# Altium schematic symbol library Schlib2.SchLib: 10 symbols
Pins are listed as number, name and electrical type; pins without a type are passive.

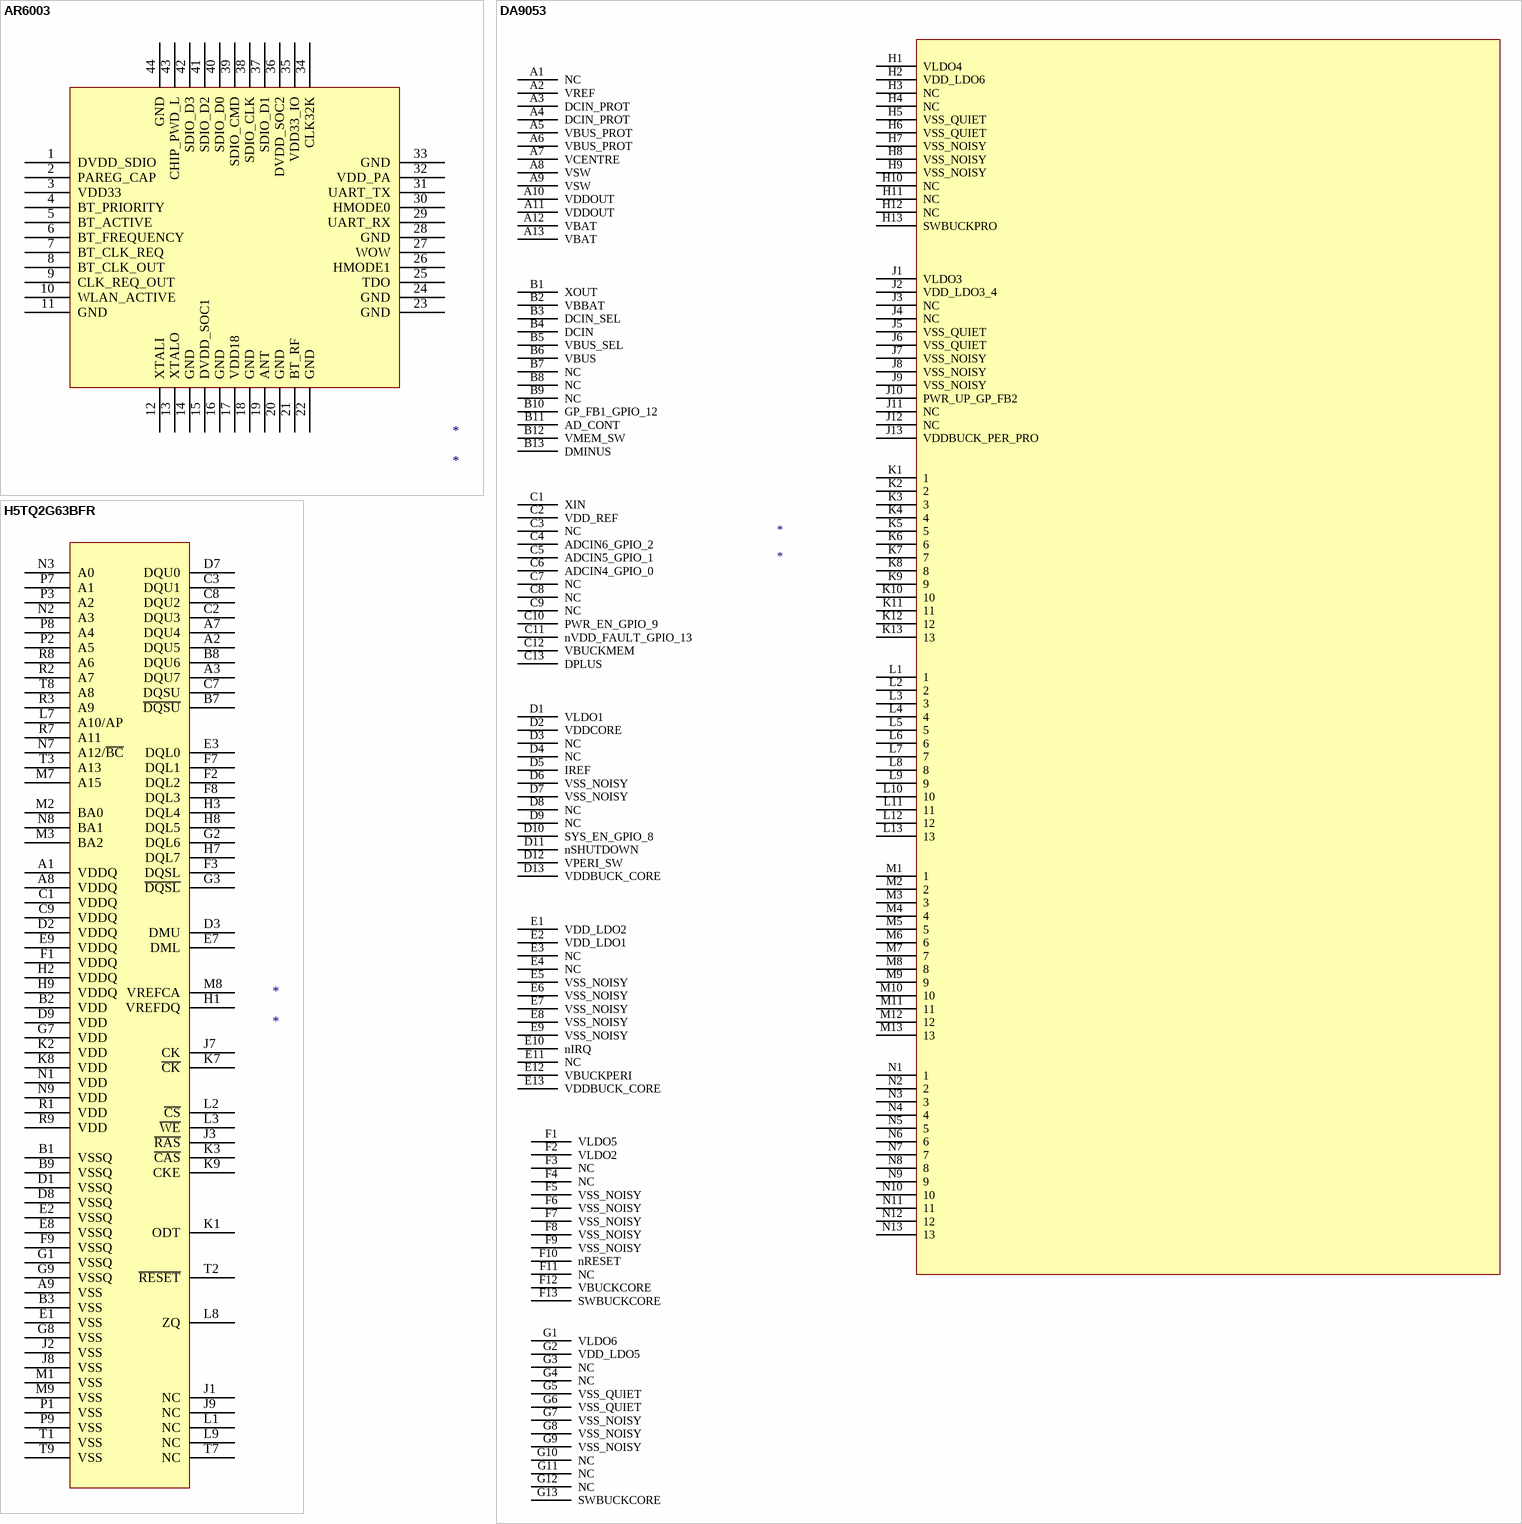
[diagram p0: symbols AR6003 to H5TQ2G63BFR]

## AR6003
designator *
pins: 1 DVDD_SDIO, 2 PAREG_CAP, 3 VDD33, 4 BT_PRIORITY, 5 BT_ACTIVE, 6 BT_FREQUENCY, 7 BT_CLK_REQ, 8 BT_CLK_OUT, 9 CLK_REQ_OUT, 10 WLAN_ACTIVE, 11 GND, 12 XTALI, 13 XTALO, 14 GND, 15 DVDD_SOC1, 16 GND, 17 VDD18, 18 GND, 19 ANT, 20 GND, 21 BT_RF, 22 GND, 23 GND, 24 GND, 25 TDO, 26 HMODE1, 27 WOW, 28 GND, 29 UART_RX, 30 HMODE0, 31 UART_TX, 32 VDD_PA, 33 GND, 34 CLK32K, 35 VDD33_IO, 36 DVDD_SOC2, 37 SDIO_D1, 38 SDIO_CLK, 39 SDIO_CMD, 40 SDIO_D0, 41 SDIO_D2, 42 SDIO_D3, 43 CHIP_PWD_L, 44 GND

## DA9053
designator *
pins: A1 NC, A2 VREF, A3 DCIN_PROT, A4 DCIN_PROT, A5 VBUS_PROT, A6 VBUS_PROT, A7 VCENTRE, A8 VSW, A9 VSW, A10 VDDOUT, A11 VDDOUT, A12 VBAT, A13 VBAT, B1 XOUT, B2 VBBAT, B3 DCIN_SEL, B4 DCIN, B5 VBUS_SEL, B6 VBUS, B7 NC, B8 NC, B9 NC, B10 GP_FB1_GPIO_12, B11 AD_CONT, B12 VMEM_SW, B13 DMINUS, C1 XIN, C2 VDD_REF, C3 NC, C4 ADCIN6_GPIO_2, C5 ADCIN5_GPIO_1, C6 ADCIN4_GPIO_0, C7 NC, C8 NC, C9 NC, C10 PWR_EN_GPIO_9, C11 nVDD_FAULT_GPIO_13, C12 VBUCKMEM, C13 DPLUS, D1 VLDO1, D2 VDDCORE, D3 NC, D4 NC, D5 IREF, D6 VSS_NOISY, D7 VSS_NOISY, D8 NC, D9 NC, D10 SYS_EN_GPIO_8, D11 nSHUTDOWN, D12 VPERI_SW, D13 VDDBUCK_CORE, E1 VDD_LDO2, E2 VDD_LDO1, E3 NC, E4 NC, E5 VSS_NOISY, E6 VSS_NOISY, E7 VSS_NOISY, E8 VSS_NOISY, E9 VSS_NOISY, E10 nIRQ, E11 NC, E12 VBUCKPERI, E13 VDDBUCK_CORE, F1 VLDO5, F2 VLDO2, F3 NC, F4 NC, F5 VSS_NOISY, F6 VSS_NOISY, F7 VSS_NOISY, F8 VSS_NOISY, F9 VSS_NOISY, F10 nRESET, F11 NC, F12 VBUCKCORE, F13 SWBUCKCORE, G1 VLDO6, G2 VDD_LDO5, G3 NC, G4 NC, G5 VSS_QUIET, G6 VSS_QUIET, G7 VSS_NOISY, G8 VSS_NOISY, G9 VSS_NOISY, G10 NC, G11 NC, G12 NC, G13 SWBUCKCORE, H1 VLDO4, H2 VDD_LDO6, H3 NC, H4 NC, H5 VSS_QUIET, H6 VSS_QUIET, H7 VSS_NOISY, H8 VSS_NOISY, H9 VSS_NOISY, H10 NC, H11 NC, H12 NC, H13 SWBUCKPRO, J1 VLDO3, J2 VDD_LDO3_4, J3 NC, J4 NC, J5 VSS_QUIET, J6 VSS_QUIET, J7 VSS_NOISY, J8 VSS_NOISY, J9 VSS_NOISY, J10 PWR_UP_GP_FB2, J11 NC, J12 NC, J13 VDDBUCK_PER_PRO, K1 1, K2 2, K3 3, K4 4, K5 5, K6 6, K7 7, K8 8, K9 9, K10 10, K11 11, K12 12, K13 13, L1 1, L2 2, L3 3, L4 4, L5 5, L6 6, L7 7, L8 8, L9 9, L10 10, L11 11, L12 12, L13 13, M1 1, M2 2, M3 3, M4 4, M5 5, M6 6, M7 7, M8 8, M9 9, M10 10, M11 11, M12 12, M13 13, N1 1, N2 2, N3 3, N4 4, N5 5, N6 6, N7 7, N8 8, N9 9, N10 10, N11 11, N12 12, N13 13

## H5TQ2G63BFR
designator *
pins: A1 VDDQ, A2 DQU5, A3 DQU7, A7 DQU4, A8 VDDQ, A9 VSS, B1 VSSQ, B2 VDD, B3 VSS, B7 ~{DQSU}, B8 DQU6, B9 VSSQ, C1 VDDQ, C2 DQU3, C3 DQU1, C7 DQSU, C8 DQU2, C9 VDDQ, D1 VSSQ, D2 VDDQ, D3 DMU, D7 DQU0, D8 VSSQ, D9 VDD, E1 VSS, E2 VSSQ, E3 DQL0, E7 DML, E8 VSSQ, E9 VDDQ, F1 VDDQ, F2 DQL2, F3 DQSL, F7 DQL1, F8 DQL3, F9 VSSQ, G1 VSSQ, G2 DQL6, G3 ~{DQSL}, G7 VDD, G8 VSS, G9 VSSQ, H1 VREFDQ, H2 VDDQ, H3 DQL4, H7 DQL7, H8 DQL5, H9 VDDQ, J1 NC, J2 VSS, J3 ~{RAS}, J7 CK, J8 VSS, J9 NC, K1 ODT, K2 VDD, K3 ~{CAS}, K7 ~{CK}, K8 VDD, K9 CKE, L1 NC, L2 ~{CS}, L3 ~{WE}, L7 A10/AP, L8 ZQ, L9 NC, M1 VSS, M2 BA0, M3 BA2, M7 A15, M8 VREFCA, M9 VSS, N1 VDD, N2 A3, N3 A0, N7 A12/~{BC}, N8 BA1, N9 VDD, P1 VSS, P2 A5, P3 A2, P7 A1, P8 A4, P9 VSS, R1 VDD, R2 A7, R3 A9, R7 A11, R8 A6, R9 VDD, T1 VSS, T2 ~{RESET}, T3 A13, T7 NC, T8 A8, T9 VSS

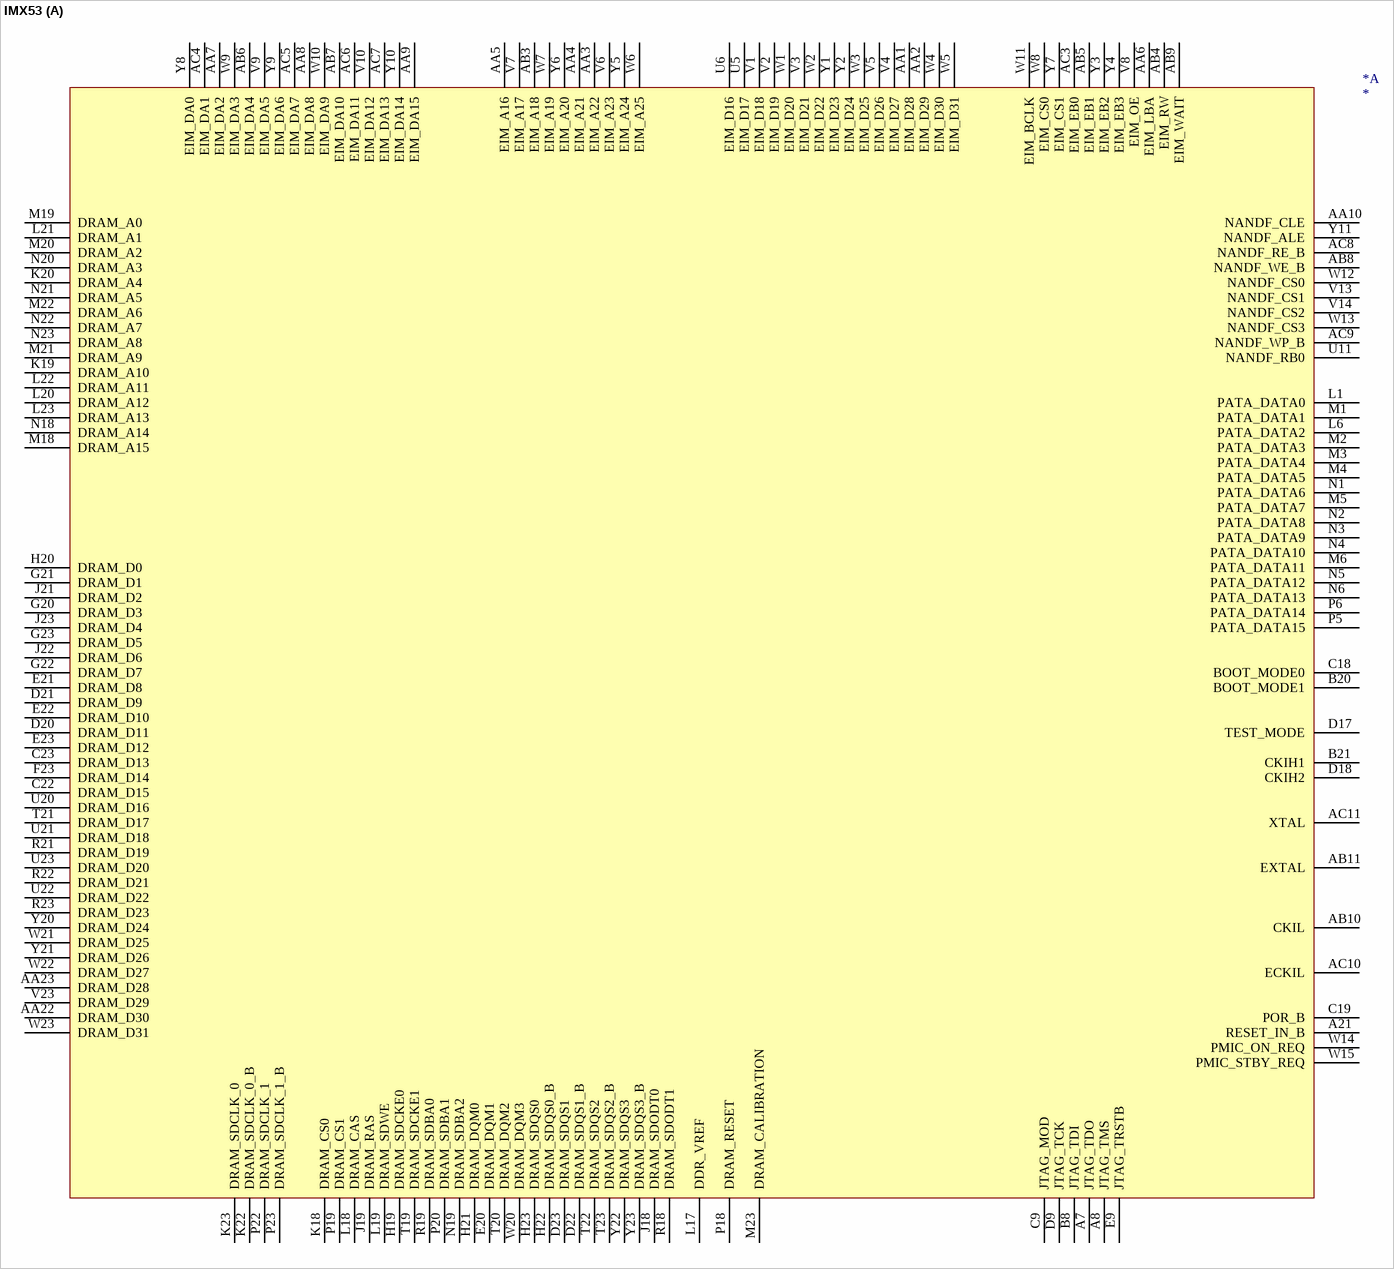
[diagram p1: symbol IMX53]

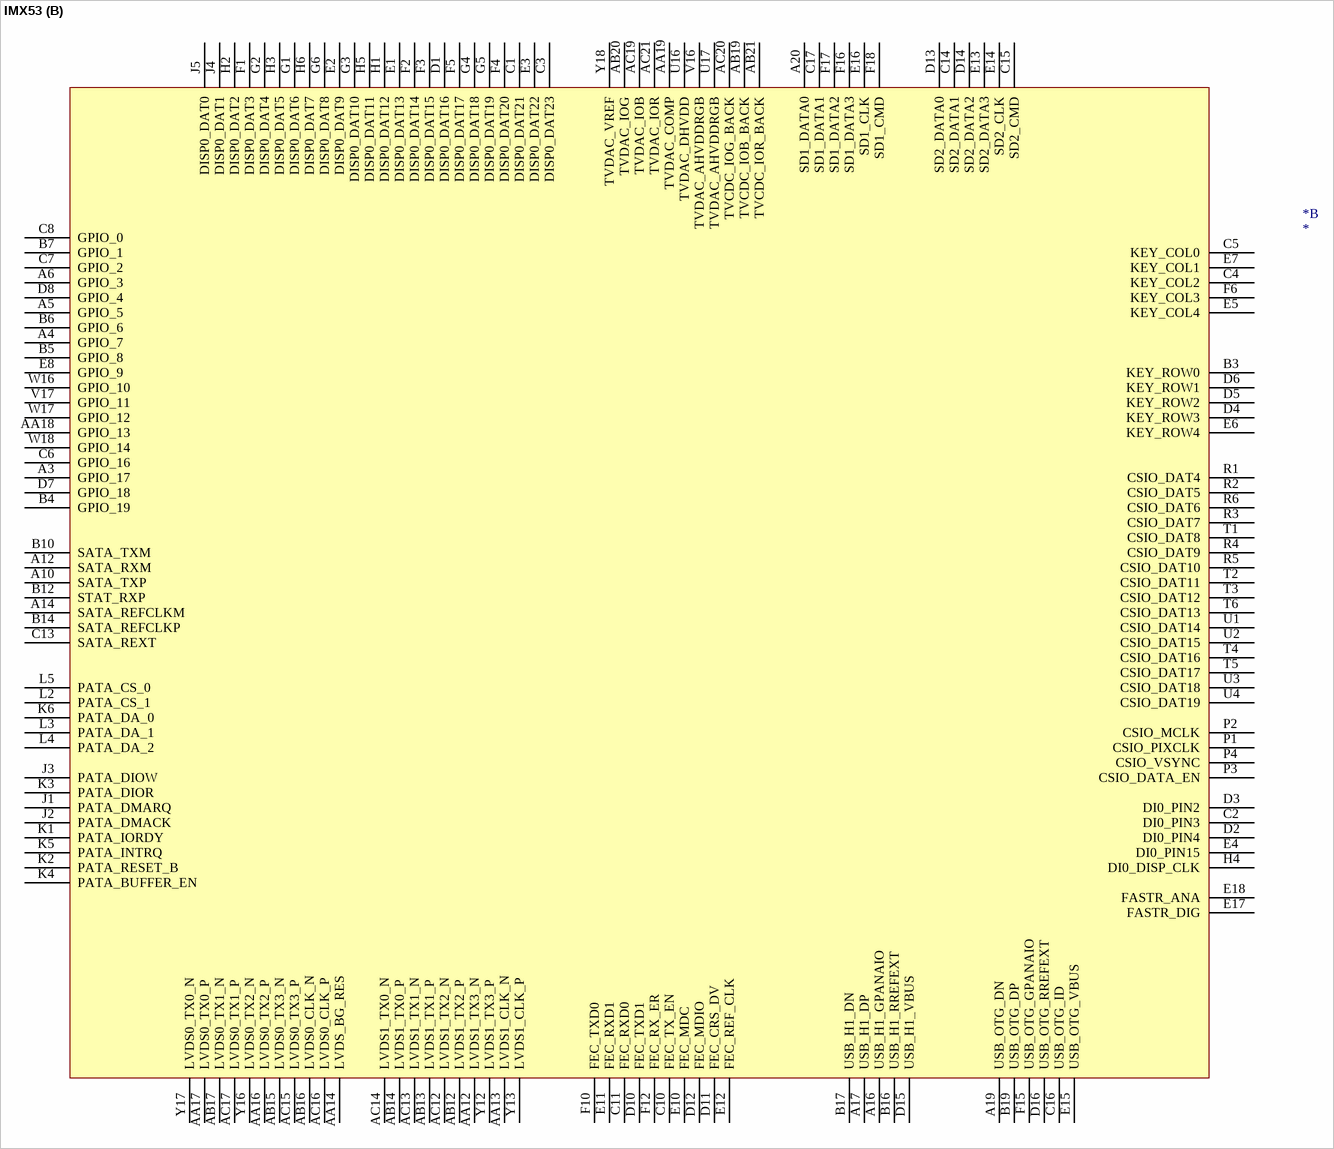
[diagram p2: symbol IMX53]

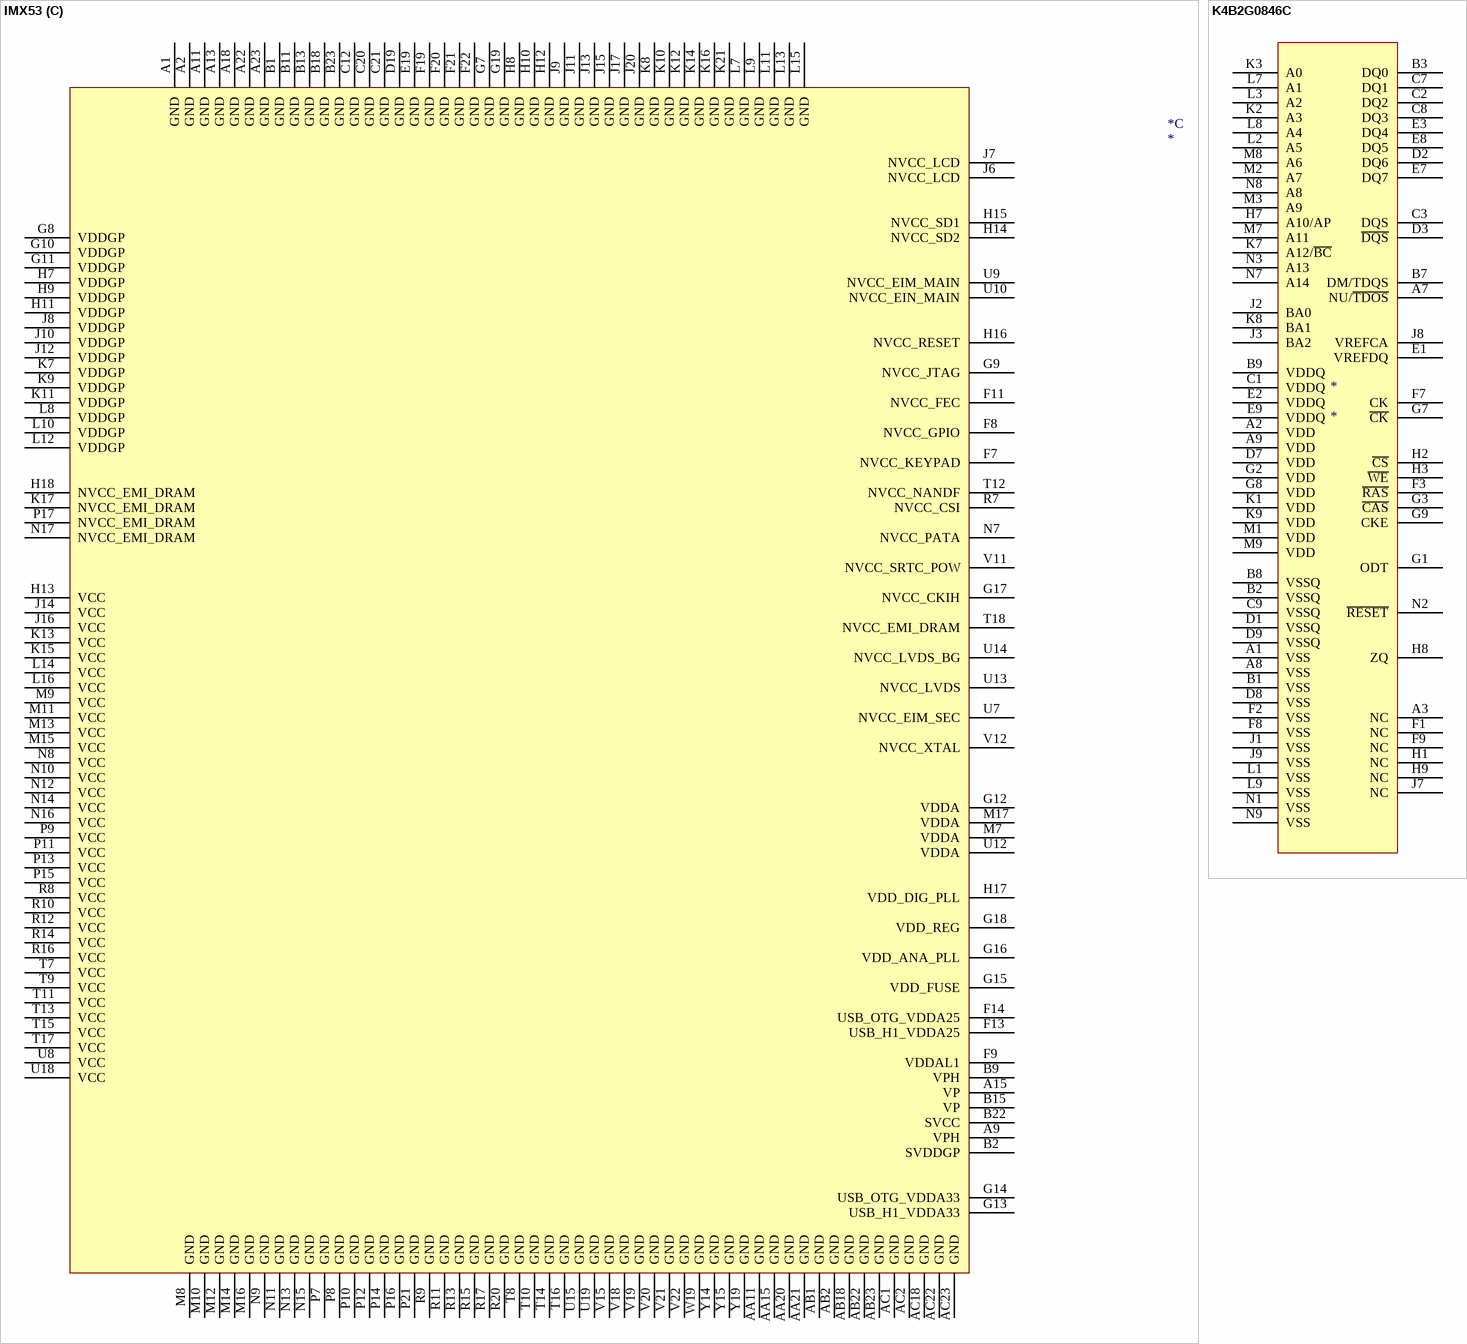
[diagram p3: symbols IMX53 to K4B2G0846C]

## IMX53
designator *
part A pins: A7 JTAG_TDO, A8 JTAG_TMS, A21 RESET_IN_B, AA1 EIM_D28, AA2 EIM_D29, AA3 EIM_A22, AA4 EIM_A21, AA5 EIM_A16, AA6 EIM_LBA, AA7 EIM_DA2, AA8 EIM_DA8, AA9 EIM_DA15, AA10 NANDF_CLE, AA22 DRAM_D30, AA23 DRAM_D28, AB3 EIM_A18, AB4 EIM_RW, AB5 EIM_EB1, AB6 EIM_DA4, AB7 EIM_DA10, AB8 NANDF_WE_B, AB9 EIM_WAIT, AB10 CKIL, AB11 EXTAL, AC3 EIM_EB0, AC4 EIM_DA1, AC5 EIM_DA7, AC6 EIM_DA11, AC7 EIM_DA13, AC8 NANDF_RE_B, AC9 NANDF_WP_B, AC10 ECKIL, AC11 XTAL, B8 JTAG_TDI, B20 BOOT_MODE1, B21 CKIH1, C9 JTAG_MOD, C18 BOOT_MODE0, C19 POR_B, C22 DRAM_D15, C23 DRAM_D13, D9 JTAG_TCK, D17 TEST_MODE, D18 CKIH2, D20 DRAM_D11, D21 DRAM_D9, D22 DRAM_SDQS1_B, D23 DRAM_SDQS1, E9 JTAG_TRSTB, E20 DRAM_DQM1, E21 DRAM_D8, E22 DRAM_D10, E23 DRAM_D12, F23 DRAM_D14, G20 DRAM_D3, G21 DRAM_D1, G22 DRAM_D7, G23 DRAM_D5, H19 DRAM_SDCKE0, H20 DRAM_D0, H21 DRAM_DQM0, H22 DRAM_SDQS0_B, H23 DRAM_SDQS0, J18 DRAM_SDODT0, J19 DRAM_RAS, J21 DRAM_D2, J22 DRAM_D6, J23 DRAM_D4, K18 DRAM_CS0, K19 DRAM_A10, K20 DRAM_A4, K22 DRAM_SDCLK_0_B, K23 DRAM_SDCLK_0, L1 PATA_DATA0, L6 PATA_DATA2, L17 DDR_VREF, L18 DRAM_CAS, L19 DRAM_SDWE, L20 DRAM_A12, L21 DRAM_A1, L22 DRAM_A11, L23 DRAM_A13, M1 PATA_DATA1, M2 PATA_DATA3, M3 PATA_DATA4, M4 PATA_DATA5, M5 PATA_DATA7, M6 PATA_DATA11, M18 DRAM_A15, M19 DRAM_A0, M20 DRAM_A2, M21 DRAM_A9, M22 DRAM_A6, M23 DRAM_CALIBRATION, N1 PATA_DATA6, N2 PATA_DATA8, N3 PATA_DATA9, N4 PATA_DATA10, N5 PATA_DATA12, N6 PATA_DATA13, N18 DRAM_A14, N19 DRAM_SDBA2, N20 DRAM_A3, N21 DRAM_A5, N22 DRAM_A7, N23 DRAM_A8, P5 PATA_DATA15, P6 PATA_DATA14, P18 DRAM_RESET, P19 DRAM_CS1, P20 DRAM_SDBA1, P22 DRAM_SDCLK_1, P23 DRAM_SDCLK_1_B, R18 DRAM_SDODT1, R19 DRAM_SDBA0, R21 DRAM_D19, R22 DRAM_D21, R23 DRAM_D23, T19 DRAM_SDCKE1, T20 DRAM_DQM2, T21 DRAM_D17, T22 DRAM_SDQS2, T23 DRAM_SDQS2_B, U5 EIM_D17, U6 EIM_D16, U11 NANDF_RB0, U20 DRAM_D16, U21 DRAM_D18, U22 DRAM_D22, U23 DRAM_D20, V1 EIM_D18, V2 EIM_D19, V3 EIM_D21, V4 EIM_D27, V5 EIM_D26, V6 EIM_A23, V7 EIM_A17, V8 EIM_OE, V9 EIM_DA5, V10 EIM_DA12, V13 NANDF_CS1, V14 NANDF_CS2, V23 DRAM_D29, W1 EIM_D20, W2 EIM_D22, W3 EIM_D25, W4 EIM_D30, W5 EIM_D31, W6 EIM_A25, W7 EIM_A19, W8 EIM_CS0, W9 EIM_DA3, W10 EIM_DA9, W11 EIM_BCLK, W12 NANDF_CS0, W13 NANDF_CS3, W14 PMIC_ON_REQ, W15 PMIC_STBY_REQ, W20 DRAM_DQM3, W21 DRAM_D25, W22 DRAM_D27, W23 DRAM_D31, Y1 EIM_D23, Y2 EIM_D24, Y3 EIM_EB2, Y4 EIM_EB3, Y5 EIM_A24, Y6 EIM_A20, Y7 EIM_CS1, Y8 EIM_DA0, Y9 EIM_DA6, Y10 EIM_DA14, Y11 NANDF_ALE, Y20 DRAM_D24, Y21 DRAM_D26, Y22 DRAM_SDQS3, Y23 DRAM_SDQS3_B
part B pins: A3 GPIO_17, A4 GPIO_7, A5 GPIO_5, A6 GPIO_3, A10 SATA_TXP, A12 SATA_RXM, A14 SATA_REFCLKM, A16 USB_H1_GPANAIO, A17 USB_H1_DP, A19 USB_OTG_DN, A20 SD1_DATA0, AA12 LVDS1_TX3_N, AA13 LVDS1_CLK_N, AA14 LVDS_BG_RES, AA16 LVDS0_TX2_P, AA17 LVDS0_TX0_P, AA18 GPIO_13, AA19 TVDAC_COMP, AB12 LVDS1_TX2_P, AB13 LVDS1_TX1_P, AB14 LVDS1_TX0_P, AB15 LVDS0_TX3_N, AB16 LVDS0_CLK_N, AB17 LVDS0_TX1_N, AB19 TVCDC_IOB_BACK, AB20 TVDAC_IOG, AB21 TVCDC_IOR_BACK, AC12 LVDS1_TX2_N, AC13 LVDS1_TX1_N, AC14 LVDS1_TX0_N, AC15 LVDS0_TX3_P, AC16 LVDS0_CLK_P, AC17 LVDS0_TX1_P, AC19 TVDAC_IOB, AC20 TVCDC_IOG_BACK, AC21 TVDAC_IOR, B3 KEY_ROW0, B4 GPIO_19, B5 GPIO_8, B6 GPIO_6, B7 GPIO_1, B10 SATA_TXM, B12 STAT_RXP, B14 SATA_REFCLKP, B16 USB_H1_RREFEXT, B17 USB_H1_DN, B19 USB_OTG_DP, C1 DISP0_DAT21, C2 DI0_PIN3, C3 DISP0_DAT23, C4 KEY_COL2, C5 KEY_COL0, C6 GPIO_16, C7 GPIO_2, C8 GPIO_0, C10 FEC_TX_EN, C11 FEC_RXD0, C13 SATA_REXT, C14 SD2_DATA1, C15 SD2_CMD, C16 USB_OTG_ID, C17 SD1_DATA1, D1 DISP0_DAT16, D2 DI0_PIN4, D3 DI0_PIN2, D4 KEY_ROW3, D5 KEY_ROW2, D6 KEY_ROW1, D7 GPIO_18, D8 GPIO_4, D10 FEC_TXD1, D11 FEC_CRS_DV, D12 FEC_MDIO, D13 SD2_DATA0, D14 SD2_DATA2, D15 USB_H1_VBUS, D16 USB_OTG_RREFEXT, E1 DISP0_DAT13, E2 DISP0_DAT9, E3 DISP0_DAT22, E4 DI0_PIN15, E5 KEY_COL4, E6 KEY_ROW4, E7 KEY_COL1, E8 GPIO_9, E10 FEC_MDC, E11 FEC_RXD1, E12 FEC_REF_CLK, E13 SD2_DATA3, E14 SD2_CLK, E15 USB_OTG_VBUS, E16 SD1_CLK, E17 FASTR_DIG, E18 FASTR_ANA, F1 DISP0_DAT3, F2 DISP0_DAT14, F3 DISP0_DAT15, F4 DISP0_DAT20, F5 DISP0_DAT17, F6 KEY_COL3, F10 FEC_TXD0, F12 FEC_RX_ER, F15 USB_OTG_GPANAIO, F16 SD1_DATA3, F17 SD1_DATA2, F18 SD1_CMD, G1 DISP0_DAT6, G2 DISP0_DAT4, G3 DISP0_DAT10, G4 DISP0_DAT18, G5 DISP0_DAT19, G6 DISP0_DAT8, H1 DISP0_DAT12, H2 DISP0_DAT2, H3 DISP0_DAT5, H4 DI0_DISP_CLK, H5 DISP0_DAT11, H6 DISP0_DAT7, J1 PATA_DMARQ, J2 PATA_DMACK, J3 PATA_DIOW, J4 DISP0_DAT1, J5 DISP0_DAT0, K1 PATA_IORDY, K2 PATA_RESET_B, K3 PATA_DIOR, K4 PATA_BUFFER_EN, K5 PATA_INTRQ, K6 PATA_DA_0, L2 PATA_CS_1, L3 PATA_DA_1, L4 PATA_DA_2, L5 PATA_CS_0, P1 CSIO_PIXCLK, P2 CSIO_MCLK, P3 CSIO_DATA_EN, P4 CSIO_VSYNC, R1 CSIO_DAT4, R2 CSIO_DAT5, R3 CSIO_DAT7, R4 CSIO_DAT9, R5 CSIO_DAT10, R6 CSIO_DAT6, T1 CSIO_DAT8, T2 CSIO_DAT11, T3 CSIO_DAT12, T4 CSIO_DAT16, T5 CSIO_DAT17, T6 CSIO_DAT13, U1 CSIO_DAT14, U2 CSIO_DAT15, U3 CSIO_DAT18, U4 CSIO_DAT19, U16 TVDAC_DHVDD, U17 TVDAC_AHVDDRGB, V16 TVDAC_AHVDDRGB, V17 GPIO_11, W16 GPIO_10, W17 GPIO_12, W18 GPIO_14, Y12 LVDS1_TX3_P, Y13 LVDS1_CLK_P, Y16 LVDS0_TX2_N, Y17 LVDS0_TX0_N, Y18 TVDAC_VREF
part C pins: A1 GND, A2 GND, A9 VPH, A11 GND, A13 GND, A15 VP, A18 GND, A22 GND, A23 GND, AA11 GND, AA15 GND, AA20 GND, AA21 GND, AB1 GND, AB2 GND, AB18 GND, AB22 GND, AB23 GND, AC1 GND, AC2 GND, AC18 GND, AC22 GND, AC23 GND, B1 GND, B2 SVDDGP, B9 VPH, B11 GND, B13 GND, B15 VP, B18 GND, B22 SVCC, B23 GND, C12 GND, C20 GND, C21 GND, D19 GND, E19 GND, F7 NVCC_KEYPAD, F8 NVCC_GPIO, F9 VDDAL1, F11 NVCC_FEC, F13 USB_H1_VDDA25, F14 USB_OTG_VDDA25, F19 GND, F20 GND, F21 GND, F22 GND, G7 GND, G8 VDDGP, G9 NVCC_JTAG, G10 VDDGP, G11 VDDGP, G12 VDDA, G13 USB_H1_VDDA33, G14 USB_OTG_VDDA33, G15 VDD_FUSE, G16 VDD_ANA_PLL, G17 NVCC_CKIH, G18 VDD_REG, G19 GND, H7 VDDGP, H8 GND, H9 VDDGP, H10 GND, H11 VDDGP, H12 GND, H13 VCC, H14 NVCC_SD2, H15 NVCC_SD1, H16 NVCC_RESET, H17 VDD_DIG_PLL, H18 NVCC_EMI_DRAM, J6 NVCC_LCD, J7 NVCC_LCD, J8 VDDGP, J9 GND, J10 VDDGP, J11 GND, J12 VDDGP, J13 GND, J14 VCC, J15 GND, J16 VCC, J17 GND, J20 GND, K7 VDDGP, K8 GND, K9 VDDGP, K10 GND, K11 VDDGP, K12 GND, K13 VCC, K14 GND, K15 VCC, K16 GND, K17 NVCC_EMI_DRAM, K21 GND, L7 GND, L8 VDDGP, L9 GND, L10 VDDGP, L11 GND, L12 VDDGP, L13 GND, L14 VCC, L15 GND, L16 VCC, M7 VDDA, M8 GND, M9 VCC, M10 GND, M11 VCC, M12 GND, M13 VCC, M14 GND, M15 VCC, M16 GND, M17 VDDA, N7 NVCC_PATA, N8 VCC, N9 GND, N10 VCC, N11 GND, N12 VCC, N13 GND, N14 VCC, N15 GND, N16 VCC, N17 NVCC_EMI_DRAM, P7 GND, P8 GND, P9 VCC, P10 GND, P11 VCC, P12 GND, P13 VCC, P14 GND, P15 VCC, P16 GND, P17 NVCC_EMI_DRAM, P21 GND, R7 NVCC_CSI, R8 VCC, R9 GND, R10 VCC, R11 GND, R12 VCC, R13 GND, R14 VCC, R15 GND, R16 VCC, R17 GND, R20 GND, T7 VCC, T8 GND, T9 VCC, T10 GND, T11 VCC, T12 NVCC_NANDF, T13 VCC, T14 GND, T15 VCC, T16 GND, T17 VCC, T18 NVCC_EMI_DRAM, U7 NVCC_EIM_SEC, U8 VCC, U9 NVCC_EIM_MAIN, U10 NVCC_EIN_MAIN, U12 VDDA, U13 NVCC_LVDS, U14 NVCC_LVDS_BG, U15 GND, U18 VCC, U19 GND, V11 NVCC_SRTC_POW, V12 NVCC_XTAL, V15 GND, V18 GND, V19 GND, V20 GND, V21 GND, V22 GND, W19 GND, Y14 GND, Y15 GND, Y19 GND

## K4B2G0846C
designator *
pins: A1 VSS, A2 VDD, A3 NC, A7 NU/~{TDOS}, A8 VSS, A9 VDD, B1 VSS, B2 VSSQ, B3 DQ0, B7 DM/TDQS, B8 VSSQ, B9 VDDQ, C1 VDDQ, C2 DQ2, C3 DQS, C7 DQ1, C8 DQ3, C9 VSSQ, D1 VSSQ, D2 DQ6, D3 ~{DQS}, D7 VDD, D8 VSS, D9 VSSQ, E1 VREFDQ, E2 VDDQ, E3 DQ4, E7 DQ7, E8 DQ5, E9 VDDQ, F1 NC, F2 VSS, F3 ~{RAS}, F7 CK, F8 VSS, F9 NC, G1 ODT, G2 VDD, G3 ~{CAS}, G7 ~{CK}, G8 VDD, G9 CKE, H1 NC, H2 ~{CS}, H3 ~{WE}, H7 A10/AP, H8 ZQ, H9 NC, J1 VSS, J2 BA0, J3 BA2, J7 NC, J8 VREFCA, J9 VSS, K1 VDD, K2 A3, K3 A0, K7 A12/~{BC}, K8 BA1, K9 VDD, L1 VSS, L2 A5, L3 A2, L7 A1, L8 A4, L9 VSS, M1 VDD, M2 A7, M3 A9, M7 A11, M8 A6, M9 VDD, N1 VSS, N2 ~{RESET}, N3 A13, N7 A14, N8 A8, N9 VSS

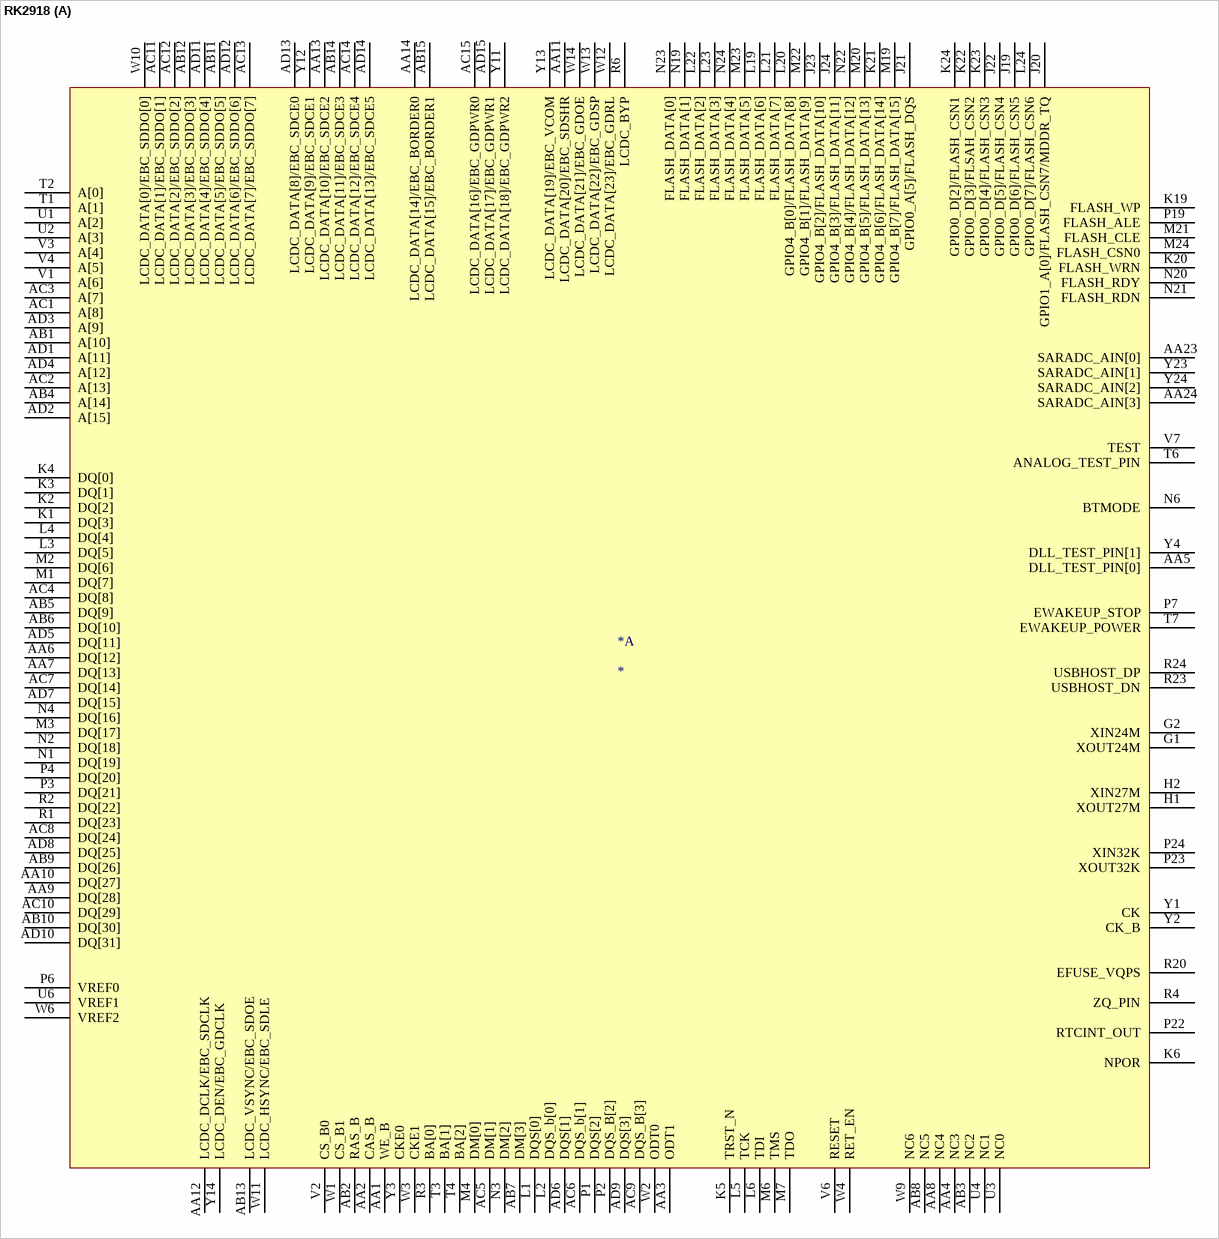
[diagram p4: symbol RK2918]

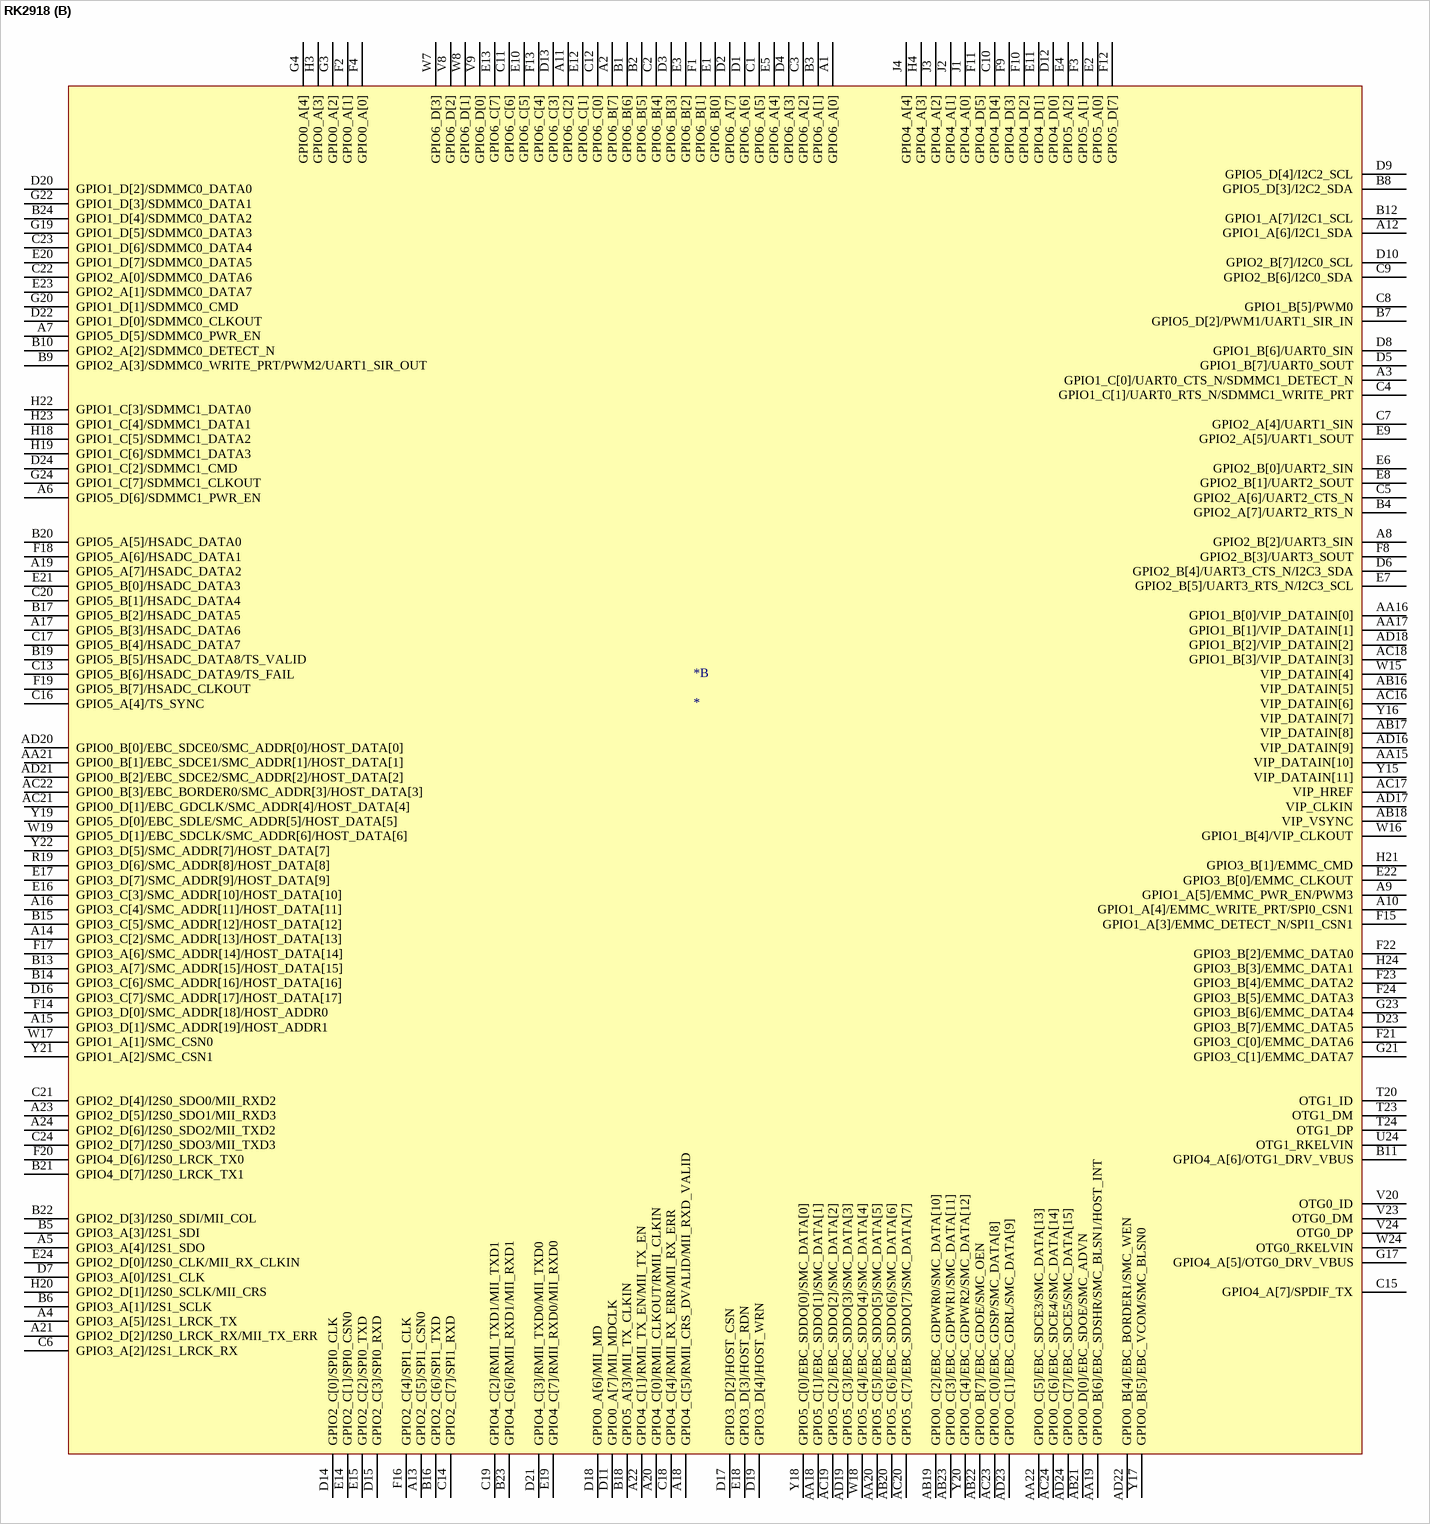
[diagram p5: symbol RK2918]

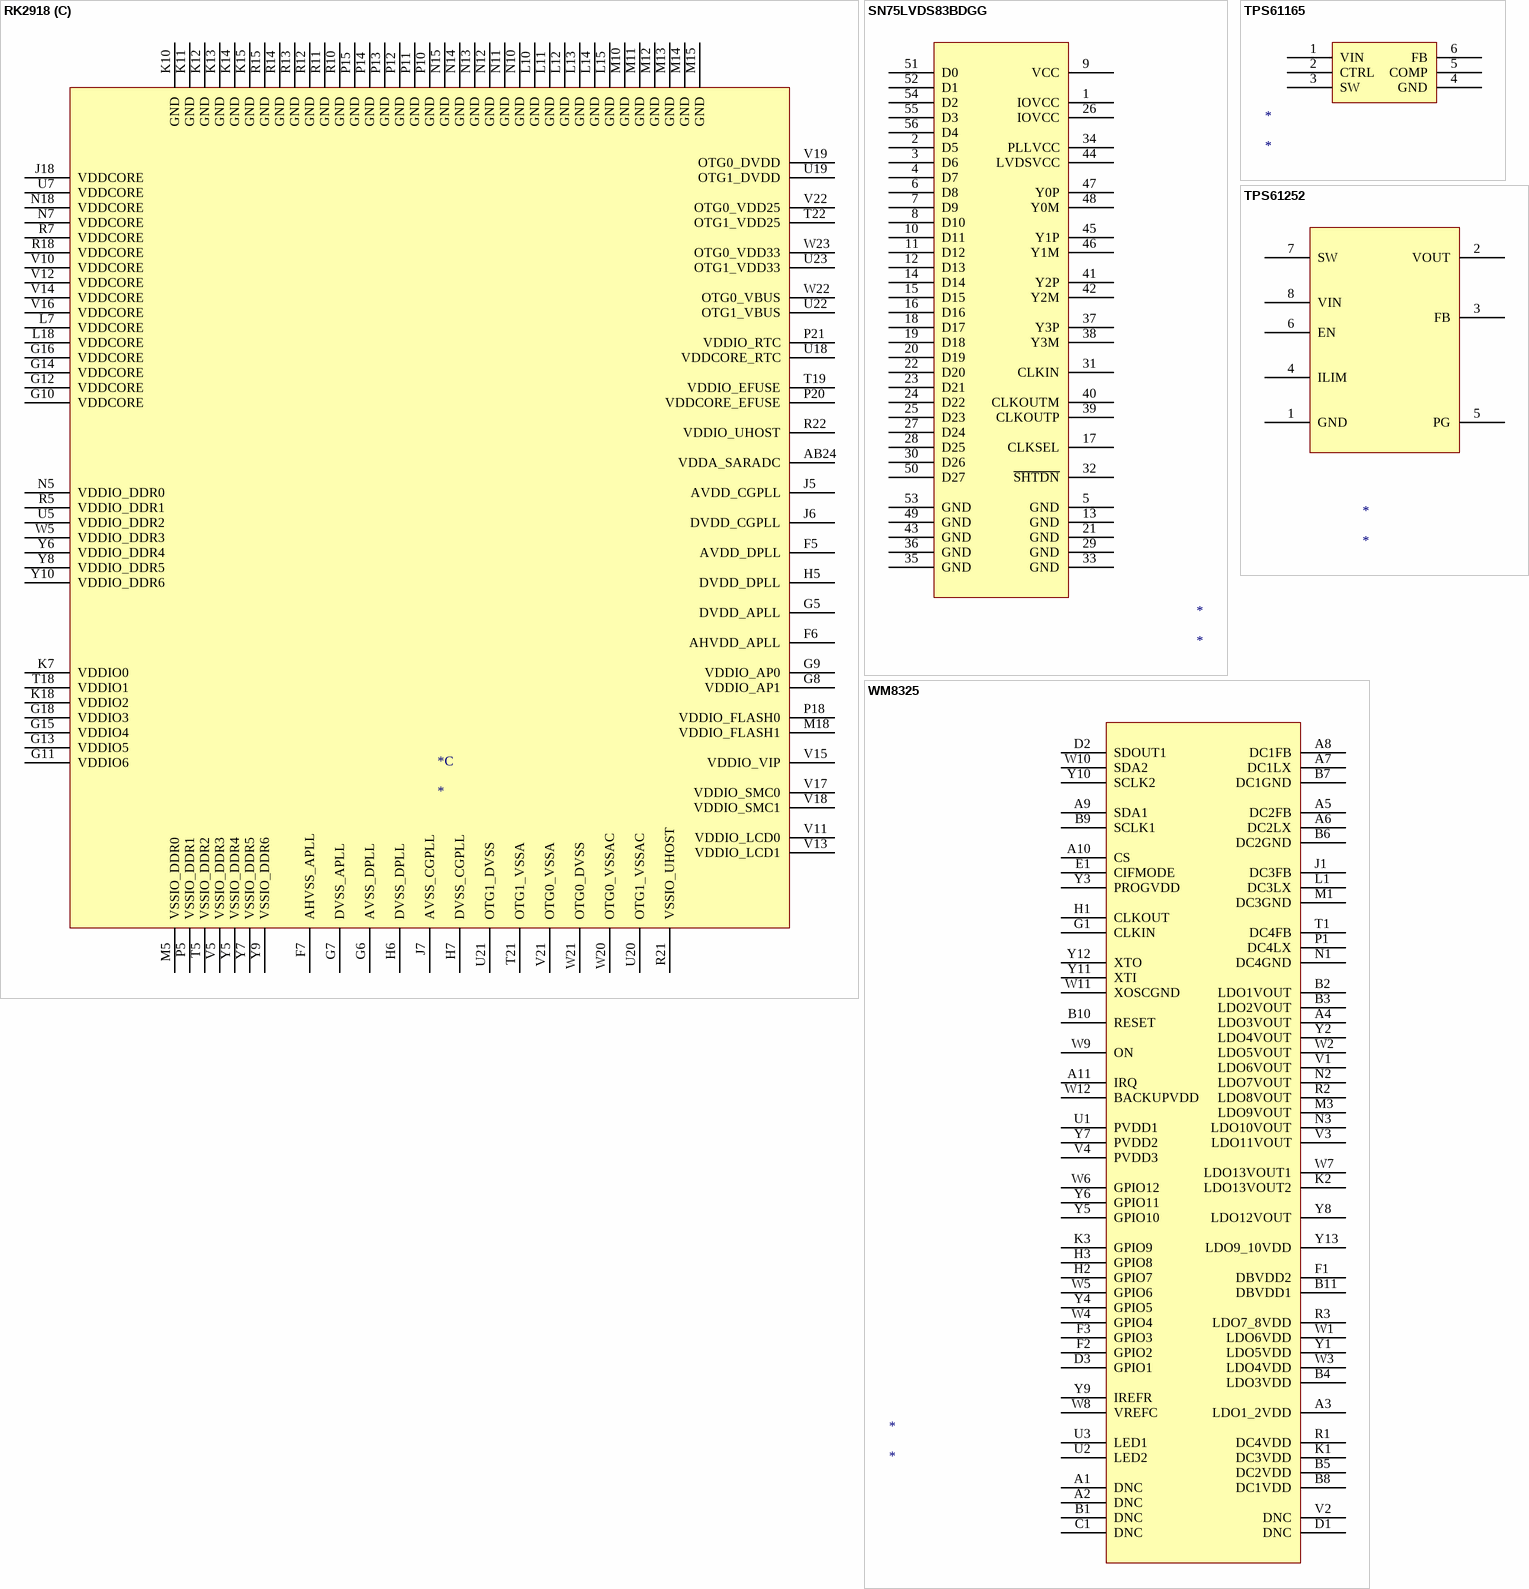
[diagram p6: symbols RK2918 to WM8325]

## RK2918
designator *
part A pins: AA1 WE_B, AA2 CAS_B, AA3 ODT1, AA4 NC3, AA5 DLL_TEST_PIN[0], AA6 DQ[12], AA7 DQ[13], AA8 NC4, AA9 DQ[28], AA10 DQ[27], AA11 LCDC_DATA[20]/EBC_SDSHR, AA12 LCDC_DCLK/EBC_SDCLK, AA13 LCDC_DATA[10]/EBC_SDCE2, AA14 LCDC_DATA[14]/EBC_BORDER0, AA23 SARADC_AIN[0], AA24 SARADC_AIN[3], AB1 A[10], AB2 RAS_B, AB3 NC2, AB4 A[14], AB5 DQ[9], AB6 DQ[10], AB7 DM[3], AB8 NC5, AB9 DQ[26], AB10 DQ[30], AB11 LCDC_DATA[5]/EBC_SDDO[5], AB12 LCDC_DATA[3]/EBC_SDDO[3], AB13 LCDC_VSYNC/EBC_SDOE, AB14 LCDC_DATA[11]/EBC_SDCE3, AB15 LCDC_DATA[15]/EBC_BORDER1, AC1 A[8], AC2 A[13], AC3 A[7], AC4 DQ[8], AC5 DM[1], AC6 DQS_b[1], AC7 DQ[14], AC8 DQ[24], AC9 DQS_B[3], AC10 DQ[29], AC11 LCDC_DATA[1]/EBC_SDDO[1], AC12 LCDC_DATA[2]/EBC_SDDO[2], AC13 LCDC_DATA[7]/EBC_SDDO[7], AC14 LCDC_DATA[12]/EBC_SDCE4, AC15 LCDC_DATA[16]/EBC_GDPWR0, AD1 A[11], AD2 A[15], AD3 A[9], AD4 A[12], AD5 DQ[11], AD6 DQS[1], AD7 DQ[15], AD8 DQ[25], AD9 DQS[3], AD10 DQ[31], AD11 LCDC_DATA[4]/EBC_SDDO[4], AD12 LCDC_DATA[6]/EBC_SDDO[6], AD13 LCDC_DATA[8]/EBC_SDCE0, AD14 LCDC_DATA[13]/EBC_SDCE5, AD15 LCDC_DATA[17]/EBC_GDPWR1, G1 XOUT24M, G2 XIN24M, H1 XOUT27M, H2 XIN27M, J19 GPIO0_D[6]/FLASH_CSN5, J20 GPIO1_A[0]/FLASH_CSN7/MDDR_TQ, J21 GPIO0_A[5]/FLASH_DQS, J22 GPIO0_D[5]/FLASH_CSN4, J23 GPIO4_B[2]/FLASH_DATA[10], J24 GPIO4_B[3]/FLASH_DATA[11], K1 DQ[3], K2 DQ[2], K3 DQ[1], K4 DQ[0], K5 TRST_N, K6 NPOR, K19 FLASH_WP, K20 FLASH_WRN, K21 GPIO4_B[6]/FLASH_DATA[14], K22 GPIO0_D[3]/FLSAH_CSN2, K23 GPIO0_D[4]/FLASH_CSN3, K24 GPIO0_D[2]/FLASH_CSN1, L1 DQS[0], L2 DQS_b[0], L3 DQ[5], L4 DQ[4], L5 TCK, L6 TDI, L19 FLASH_DATA[6], L20 GPIO4_B[0]/FLASH_DATA[8], L21 FLASH_DATA[7], L22 FLASH_DATA[2], L23 FLASH_DATA[3], L24 GPIO0_D[7]/FLASH_CSN6, M1 DQ[7], M2 DQ[6], M3 DQ[17], M4 DM[0], M6 TMS, M7 TDO, M19 GPIO4_B[7]/FLASH_DATA[15], M20 GPIO4_B[5]/FLASH_DATA[13], M21 FLASH_CLE, M22 GPIO4_B[1]/FLASH_DATA[9], M23 FLASH_DATA[5], M24 FLASH_CSN0, N1 DQ[19], N2 DQ[18], N3 DM[2], N4 DQ[16], N6 BTMODE, N19 FLASH_DATA[1], N20 FLASH_RDY, N21 FLASH_RDN, N22 GPIO4_B[4]/FLASH_DATA[12], N23 FLASH_DATA[0], N24 FLASH_DATA[4], P1 DQS[2], P2 DQS_B[2], P3 DQ[21], P4 DQ[20], P6 VREF0, P7 EWAKEUP_STOP, P19 FLASH_ALE, P22 RTCINT_OUT, P23 XOUT32K, P24 XIN32K, R1 DQ[23], R2 DQ[22], R3 BA[0], R4 ZQ_PIN, R6 LCDC_BYP, R20 EFUSE_VQPS, R23 USBHOST_DN, R24 USBHOST_DP, T1 A[1], T2 A[0], T3 BA[1], T4 BA[2], T6 ANALOG_TEST_PIN, T7 EWAKEUP_POWER, U1 A[2], U2 A[3], U3 NC0, U4 NC1, U6 VREF1, V1 A[6], V2 CS_B0, V3 A[4], V4 A[5], V6 RESET, V7 TEST, W1 CS_B1, W2 ODT0, W3 CKE1, W4 RET_EN, W6 VREF2, W9 NC6, W10 LCDC_DATA[0]/EBC_SDDO[0], W11 LCDC_HSYNC/EBC_SDLE, W12 LCDC_DATA[23]/EBC_GDRL, W13 LCDC_DATA[22]/EBC_GDSP, W14 LCDC_DATA[21]/EBC_GDOE, Y1 CK, Y2 CK_B, Y3 CKE0, Y4 DLL_TEST_PIN[1], Y11 LCDC_DATA[18]/EBC_GDPWR2, Y12 LCDC_DATA[9]/EBC_SDCE1, Y13 LCDC_DATA[19]/EBC_VCOM, Y14 LCDC_DEN/EBC_GDCLK, Y23 SARADC_AIN[1], Y24 SARADC_AIN[2]
part B pins: A1 GPIO6_A[0], A2 GPIO6_B[7], A3 GPIO1_C[0]/UART0_CTS_N/SDMMC1_DETECT_N, A4 GPIO3_A[5]/I2S1_LRCK_TX, A5 GPIO3_A[4]/I2S1_SDO, A6 GPIO5_D[6]/SDMMC1_PWR_EN, A7 GPIO5_D[5]/SDMMC0_PWR_EN, A8 GPIO2_B[2]/UART3_SIN, A9 GPIO1_A[5]/EMMC_PWR_EN/PWM3, A10 GPIO1_A[4]/EMMC_WRITE_PRT/SPI0_CSN1, A11 GPIO6_C[2], A12 GPIO1_A[6]/I2C1_SDA, A13 GPIO2_C[5]/SPI1_CSN0, A14 GPIO3_C[2]/SMC_ADDR[13]/HOST_DATA[13], A15 GPIO3_D[1]/SMC_ADDR[19]/HOST_ADDR1, A16 GPIO3_C[4]/SMC_ADDR[11]/HOST_DATA[11], A17 GPIO5_B[3]/HSADC_DATA6, A18 GPIO4_C[5]/RMII_CRS_DVALID/MII_RXD_VALID, A19 GPIO5_A[7]/HSADC_DATA2, A20 GPIO4_C[0]/RMII_CLKOUT/RMII_CLKIN, A21 GPIO2_D[2]/I2S0_LRCK_RX/MII_TX_ERR, A22 GPIO4_C[1]/RMII_TX_EN/MII_TX_EN, A23 GPIO2_D[5]/I2S0_SDO1/MII_RXD3, A24 GPIO2_D[6]/I2S0_SDO2/MII_TXD2, AA15 VIP_DATAIN[10], AA16 GPIO1_B[0]/VIP_DATAIN[0], AA17 GPIO1_B[1]/VIP_DATAIN[1], AA18 GPIO5_C[1]/EBC_SDDO[1]/SMC_DATA[1], AA19 GPIO0_B[6]/EBC_SDSHR/SMC_BLSN1/HOST_INT, AA20 GPIO5_C[5]/EBC_SDDO[5]/SMC_DATA[5], AA21 GPIO0_B[1]/EBC_SDCE1/SMC_ADDR[1]/HOST_DATA[1], AA22 GPIO0_C[5]/EBC_SDCE3/SMC_DATA[13], AB16 VIP_DATAIN[5], AB17 VIP_DATAIN[8], AB18 VIP_VSYNC, AB19 GPIO0_C[2]/EBC_GDPWR0/SMC_DATA[10], AB20 GPIO5_C[6]/EBC_SDDO[6]/SMC_DATA[6], AB21 GPIO0_D[0]/EBC_SDOE/SMC_ADVN, AB22 GPIO0_B[7]/EBC_GDOE/SMC_OEN, AB23 GPIO0_C[3]/EBC_GDPWR1/SMC_DATA[11], AC16 VIP_DATAIN[6], AC17 VIP_HREF, AC18 GPIO1_B[3]/VIP_DATAIN[3], AC19 GPIO5_C[2]/EBC_SDDO[2]/SMC_DATA[2], AC20 GPIO5_C[7]/EBC_SDDO[7]/SMC_DATA[7], AC21 GPIO0_D[1]/EBC_GDCLK/SMC_ADDR[4]/HOST_DATA[4], AC22 GPIO0_B[3]/EBC_BORDER0/SMC_ADDR[3]/HOST_DATA[3], AC23 GPIO0_C[0]/EBC_GDSP/SMC_DATA[8], AC24 GPIO0_C[6]/EBC_SDCE4/SMC_DATA[14], AD16 VIP_DATAIN[9], AD17 VIP_CLKIN, AD18 GPIO1_B[2]/VIP_DATAIN[2], AD19 GPIO5_C[3]/EBC_SDDO[3]/SMC_DATA[3], AD20 GPIO0_B[0]/EBC_SDCE0/SMC_ADDR[0]/HOST_DATA[0], AD21 GPIO0_B[2]/EBC_SDCE2/SMC_ADDR[2]/HOST_DATA[2], AD22 GPIO0_B[4]/EBC_BORDER1/SMC_WEN, AD23 GPIO0_C[1]/EBC_GDRL/SMC_DATA[9], AD24 GPIO0_C[7]/EBC_SDCE5/SMC_DATA[15], B1 GPIO6_B[6], B2 GPIO6_B[5], B3 GPIO6_A[1], B4 GPIO2_A[7]/UART2_RTS_N, B5 GPIO3_A[3]/I2S1_SDI, B6 GPIO3_A[1]/I2S1_SCLK, B7 GPIO5_D[2]/PWM1/UART1_SIR_IN, B8 GPIO5_D[3]/I2C2_SDA, B9 GPIO2_A[3]/SDMMC0_WRITE_PRT/PWM2/UART1_SIR_OUT, B10 GPIO2_A[2]/SDMMC0_DETECT_N, B11 GPIO4_A[6]/OTG1_DRV_VBUS, B12 GPIO1_A[7]/I2C1_SCL, B13 GPIO3_A[7]/SMC_ADDR[15]/HOST_DATA[15], B14 GPIO3_C[6]/SMC_ADDR[16]/HOST_DATA[16], B15 GPIO3_C[5]/SMC_ADDR[12]/HOST_DATA[12], B16 GPIO2_C[6]/SPI1_TXD, B17 GPIO5_B[2]/HSADC_DATA5, B18 GPIO5_A[3]/MII_TX_CLKIN, B19 GPIO5_B[5]/HSADC_DATA8/TS_VALID, B20 GPIO5_A[5]/HSADC_DATA0, B21 GPIO4_D[7]/I2S0_LRCK_TX1, B22 GPIO2_D[3]/I2S0_SDI/MII_COL, B23 GPIO4_C[6]/RMII_RXD1/MII_RXD1, B24 GPIO1_D[4]/SDMMC0_DATA2, C1 GPIO6_A[5], C2 GPIO6_B[4], C3 GPIO6_A[2], C4 GPIO1_C[1]/UART0_RTS_N/SDMMC1_WRITE_PRT, C5 GPIO2_A[6]/UART2_CTS_N, C6 GPIO3_A[2]/I2S1_LRCK_RX, C7 GPIO2_A[4]/UART1_SIN, C8 GPIO1_B[5]/PWM0, C9 GPIO2_B[6]/I2C0_SDA, C10 GPIO4_D[4], C11 GPIO6_C[6], C12 GPIO6_C[0], C13 GPIO5_B[6]/HSADC_DATA9/TS_FAIL, C14 GPIO2_C[7]/SPI1_RXD, C15 GPIO4_A[7]/SPDIF_TX, C16 GPIO5_A[4]/TS_SYNC, C17 GPIO5_B[4]/HSADC_DATA7, C18 GPIO4_C[4]/RMII_RX_ERR/MII_RX_ERR, C19 GPIO4_C[2]/RMII_TXD1/MII_TXD1, C20 GPIO5_B[1]/HSADC_DATA4, C21 GPIO2_D[4]/I2S0_SDO0/MII_RXD2, C22 GPIO2_A[0]/SDMMC0_DATA6, C23 GPIO1_D[6]/SDMMC0_DATA4, C24 GPIO2_D[7]/I2S0_SDO3/MII_TXD3, D1 GPIO6_A[6], D2 GPIO6_A[7], D3 GPIO6_B[3], D4 GPIO6_A[3], D5 GPIO1_B[7]/UART0_SOUT, D6 GPIO2_B[4]/UART3_CTS_N/I2C3_SDA, D7 GPIO3_A[0]/I2S1_CLK, D8 GPIO1_B[6]/UART0_SIN, D9 GPIO5_D[4]/I2C2_SCL, D10 GPIO2_B[7]/I2C0_SCL, D11 GPIO0_A[7]/MII_MDCLK, D12 GPIO4_D[0], D13 GPIO6_C[3], D14 GPIO2_C[0]/SPI0_CLK, D15 GPIO2_C[3]/SPI0_RXD, D16 GPIO3_C[7]/SMC_ADDR[17]/HOST_DATA[17], D17 GPIO3_D[2]/HOST_CSN, D18 GPIO0_A[6]/MII_MD, D19 GPIO3_D[4]/HOST_WRN, D20 GPIO1_D[2]/SDMMC0_DATA0, D21 GPIO4_C[3]/RMII_TXD0/MII_TXD0, D22 GPIO1_D[0]/SDMMC0_CLKOUT, D23 GPIO3_B[7]/EMMC_DATA5, D24 GPIO1_C[2]/SDMMC1_CMD, E1 GPIO6_B[0], E2 GPIO5_A[0], E3 GPIO6_B[2], E4 GPIO5_A[2], E5 GPIO6_A[4], E6 GPIO2_B[0]/UART2_SIN, E7 GPIO2_B[5]/UART3_RTS_N/I2C3_SCL, E8 GPIO2_B[1]/UART2_SOUT, E9 GPIO2_A[5]/UART1_SOUT, E10 GPIO6_C[5], E11 GPIO4_D[1], E12 GPIO6_C[1], E13 GPIO6_C[7], E14 GPIO2_C[1]/SPI0_CSN0, E15 GPIO2_C[2]/SPI0_TXD, E16 GPIO3_C[3]/SMC_ADDR[10]/HOST_DATA[10], E17 GPIO3_D[7]/SMC_ADDR[9]/HOST_DATA[9], E18 GPIO3_D[3]/HOST_RDN, E19 GPIO4_C[7]/RMII_RXD0/MII_RXD0, E20 GPIO1_D[7]/SDMMC0_DATA5, E21 GPIO5_B[0]/HSADC_DATA3, E22 GPIO3_B[0]/EMMC_CLKOUT, E23 GPIO2_A[1]/SDMMC0_DATA7, E24 GPIO2_D[0]/I2S0_CLK/MII_RX_CLKIN, F1 GPIO6_B[1], F2 GPIO0_A[1], F3 GPIO5_A[1], F4 GPIO0_A[0], F8 GPIO2_B[3]/UART3_SOUT, F9 GPIO4_D[3], F10 GPIO4_D[2], F11 GPIO4_D[5], F12 GPIO5_D[7], F13 GPIO6_C[4], F14 GPIO3_D[0]/SMC_ADDR[18]/HOST_ADDR0, F15 GPIO1_A[3]/EMMC_DETECT_N/SPI1_CSN1, F16 GPIO2_C[4]/SPI1_CLK, F17 GPIO3_A[6]/SMC_ADDR[14]/HOST_DATA[14], F18 GPIO5_A[6]/HSADC_DATA1, F19 GPIO5_B[7]/HSADC_CLKOUT, F20 GPIO4_D[6]/I2S0_LRCK_TX0, F21 GPIO3_C[0]/EMMC_DATA6, F22 GPIO3_B[2]/EMMC_DATA0, F23 GPIO3_B[4]/EMMC_DATA2, F24 GPIO3_B[5]/EMMC_DATA3, G3 GPIO0_A[2], G4 GPIO0_A[4], G17 GPIO4_A[5]/OTG0_DRV_VBUS, G19 GPIO1_D[5]/SDMMC0_DATA3, G20 GPIO1_D[1]/SDMMC0_CMD, G21 GPIO3_C[1]/EMMC_DATA7, G22 GPIO1_D[3]/SDMMC0_DATA1, G23 GPIO3_B[6]/EMMC_DATA4, G24 GPIO1_C[7]/SDMMC1_CLKOUT, H3 GPIO0_A[3], H4 GPIO4_A[3], H18 GPIO1_C[5]/SDMMC1_DATA2, H19 GPIO1_C[6]/SDMMC1_DATA3, H20 GPIO2_D[1]/I2S0_SCLK/MII_CRS, H21 GPIO3_B[1]/EMMC_CMD, H22 GPIO1_C[3]/SDMMC1_DATA0, H23 GPIO1_C[4]/SDMMC1_DATA1, H24 GPIO3_B[3]/EMMC_DATA1, J1 GPIO4_A[0], J2 GPIO4_A[1], J3 GPIO4_A[2], J4 GPIO4_A[4], R19 GPIO3_D[6]/SMC_ADDR[8]/HOST_DATA[8], T20 OTG1_ID, T23 OTG1_DM, T24 OTG1_DP, U24 OTG1_RKELVIN, V8 GPIO6_D[2], V9 GPIO6_D[0], V20 OTG0_ID, V23 OTG0_DM, V24 OTG0_DP, W7 GPIO6_D[3], W8 GPIO6_D[1], W15 VIP_DATAIN[4], W16 GPIO1_B[4]/VIP_CLKOUT, W17 GPIO1_A[1]/SMC_CSN0, W18 GPIO5_C[4]/EBC_SDDO[4]/SMC_DATA[4], W19 GPIO5_D[1]/EBC_SDCLK/SMC_ADDR[6]/HOST_DATA[6], W24 OTG0_RKELVIN, Y15 VIP_DATAIN[11], Y16 VIP_DATAIN[7], Y17 GPIO0_B[5]/EBC_VCOM/SMC_BLSN0, Y18 GPIO5_C[0]/EBC_SDDO[0]/SMC_DATA[0], Y19 GPIO5_D[0]/EBC_SDLE/SMC_ADDR[5]/HOST_DATA[5], Y20 GPIO0_C[4]/EBC_GDPWR2/SMC_DATA[12], Y21 GPIO1_A[2]/SMC_CSN1, Y22 GPIO3_D[5]/SMC_ADDR[7]/HOST_DATA[7]
part C pins: AB24 VDDA_SARADC, F5 AVDD_DPLL, F6 AHVDD_APLL, F7 AHVSS_APLL, G5 DVDD_APLL, G6 AVSS_DPLL, G7 DVSS_APLL, G8 VDDIO_AP1, G9 VDDIO_AP0, G10 VDDCORE, G11 VDDIO6, G12 VDDCORE, G13 VDDIO5, G14 VDDCORE, G15 VDDIO4, G16 VDDCORE, G18 VDDIO3, H5 DVDD_DPLL, H6 DVSS_DPLL, H7 DVSS_CGPLL, J5 AVDD_CGPLL, J6 DVDD_CGPLL, J7 AVSS_CGPLL, J18 VDDCORE, K7 VDDIO0, K10 GND, K11 GND, K12 GND, K13 GND, K14 GND, K15 GND, K18 VDDIO2, L7 VDDCORE, L10 GND, L11 GND, L12 GND, L13 GND, L14 GND, L15 GND, L18 VDDCORE, M5 VSSIO_DDR0, M10 GND, M11 GND, M12 GND, M13 GND, M14 GND, M15 GND, M18 VDDIO_FLASH1, N5 VDDIO_DDR0, N7 VDDCORE, N10 GND, N11 GND, N12 GND, N13 GND, N14 GND, N15 GND, N18 VDDCORE, P5 VSSIO_DDR1, P10 GND, P11 GND, P12 GND, P13 GND, P14 GND, P15 GND, P18 VDDIO_FLASH0, P20 VDDCORE_EFUSE, P21 VDDIO_RTC, R5 VDDIO_DDR1, R7 VDDCORE, R10 GND, R11 GND, R12 GND, R13 GND, R14 GND, R15 GND, R18 VDDCORE, R21 VSSIO_UHOST, R22 VDDIO_UHOST, T5 VSSIO_DDR2, T18 VDDIO1, T19 VDDIO_EFUSE, T21 OTG1_VSSA, T22 OTG1_VDD25, U5 VDDIO_DDR2, U7 VDDCORE, U18 VDDCORE_RTC, U19 OTG1_DVDD, U20 OTG1_VSSAC, U21 OTG1_DVSS, U22 OTG1_VBUS, U23 OTG1_VDD33, V5 VSSIO_DDR3, V10 VDDCORE, V11 VDDIO_LCD0, V12 VDDCORE, V13 VDDIO_LCD1, V14 VDDCORE, V15 VDDIO_VIP, V16 VDDCORE, V17 VDDIO_SMC0, V18 VDDIO_SMC1, V19 OTG0_DVDD, V21 OTG0_VSSA, V22 OTG0_VDD25, W5 VDDIO_DDR3, W20 OTG0_VSSAC, W21 OTG0_DVSS, W22 OTG0_VBUS, W23 OTG0_VDD33, Y5 VSSIO_DDR4, Y6 VDDIO_DDR4, Y7 VSSIO_DDR5, Y8 VDDIO_DDR5, Y9 VSSIO_DDR6, Y10 VDDIO_DDR6

## SN75LVDS83BDGG
designator *
pins: 1 IOVCC, 2 D5, 3 D6, 4 D7, 5 GND, 6 D8, 7 D9, 8 D10, 9 VCC, 10 D11, 11 D12, 12 D13, 13 GND, 14 D14, 15 D15, 16 D16, 17 CLKSEL, 18 D17, 19 D18, 20 D19, 21 GND, 22 D20, 23 D21, 24 D22, 25 D23, 26 IOVCC, 27 D24, 28 D25, 29 GND, 30 D26, 31 CLKIN, 32 ~{SHTDN}, 33 GND, 34 PLLVCC, 35 GND, 36 GND, 37 Y3P, 38 Y3M, 39 CLKOUTP, 40 CLKOUTM, 41 Y2P, 42 Y2M, 43 GND, 44 LVDSVCC, 45 Y1P, 46 Y1M, 47 Y0P, 48 Y0M, 49 GND, 50 D27, 51 D0, 52 D1, 53 GND, 54 D2, 55 D3, 56 D4

## TPS61165
designator *
pins: 1 VIN, 2 CTRL, 3 SW, 4 GND, 5 COMP, 6 FB

## TPS61252
designator *
pins: 1 GND, 2 VOUT, 3 FB, 4 ILIM, 5 PG, 6 EN, 7 SW, 8 VIN

## WM8325
designator *
pins: A1 DNC, A2 DNC, A3 LDO1_2VDD, A4 LDO3VOUT, A5 DC2FB, A6 DC2LX, A7 DC1LX, A8 DC1FB, A9 SDA1, A10 CS, A11 IRQ, B1 DNC, B2 LDO1VOUT, B3 LDO2VOUT, B4 LDO3VDD, B5 DC2VDD, B6 DC2GND, B7 DC1GND, B8 DC1VDD, B9 SCLK1, B10 RESET, B11 DBVDD1, C1 DNC, D1 DNC, D2 SDOUT1, D3 GPIO1, E1 CIFMODE, F1 DBVDD2, F2 GPIO2, F3 GPIO3, G1 CLKIN, H1 CLKOUT, H2 GPIO7, H3 GPIO8, J1 DC3FB, K1 DC3VDD, K2 LDO13VOUT2, K3 GPIO9, L1 DC3LX, M1 DC3GND, M3 LDO9VOUT, N1 DC4GND, N2 LDO7VOUT, N3 LDO10VOUT, P1 DC4LX, R1 DC4VDD, R2 LDO8VOUT, R3 LDO7_8VDD, T1 DC4FB, U1 PVDD1, U2 LED2, U3 LED1, V1 LDO6VOUT, V2 DNC, V3 LDO11VOUT, V4 PVDD3, W1 LDO6VDD, W2 LDO5VOUT, W3 LDO4VDD, W4 GPIO4, W5 GPIO6, W6 GPIO12, W7 LDO13VOUT1, W8 VREFC, W9 ON, W10 SDA2, W11 XOSCGND, W12 BACKUPVDD, Y1 LDO5VDD, Y2 LDO4VOUT, Y3 PROGVDD, Y4 GPIO5, Y5 GPIO10, Y6 GPIO11, Y7 PVDD2, Y8 LDO12VOUT, Y9 IREFR, Y10 SCLK2, Y11 XTI, Y12 XTO, Y13 LDO9_10VDD